# Altium footprint library SOD3715X135N (21).PcbLib: 1 footprints
Each footprint in its own frame and in the unit in brackets; x right, y up, seen from the top. Pads: shape width x height; smd on the part's side, far side on the other; paste and mask are expansions set on the pad; w line width, h text height; cw(c..) or ccw(c..) is an arc to the next point about the centre after c.
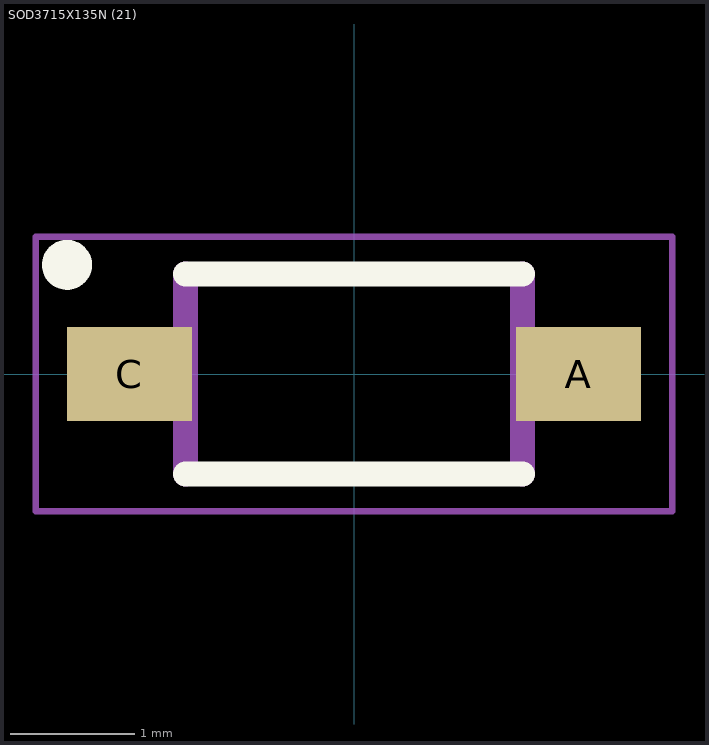
[diagram p0: the footprint, top view; thin cyan lines are the x and y axes]

## SOD3715X135N (21) [mm]
pads (2):
  rect 1x0.75 smd paste+0 mask+0.102: A(1.8,0) C(-1.8,0)
Top Overlay:
  circle w0.2: c-2.3,0.875 r0.1
  lines w0.2: -1.35,-0.8 1.35,-0.8 ; -1.35,0.8 1.35,0.8
Assembly Top:
  lines w0.2: -1.35,-0.8 -1.35,0.8 ; 1.35,-0.8 1.35,0.8
Top Courtyard:
  lines w0.05: -2.55,-1.1 -2.55,1.1 2.55,1.1 2.55,-1.1 -2.55,-1.1
3D body "step_temp.STEP": height 1.1, standoff 0.1, extent -2,-0.8 1.8,0.8